# Altium footprint library CQFP80P1115X1115X120-32N.PcbLib: 1 footprints
Each footprint in its own frame and in the unit in brackets; x right, y up, seen from the top. Pads: shape width x height; smd on the part's side, far side on the other; paste and mask are expansions set on the pad; w line width, h text height; cw(c..) or ccw(c..) is an arc to the next point about the centre after c.
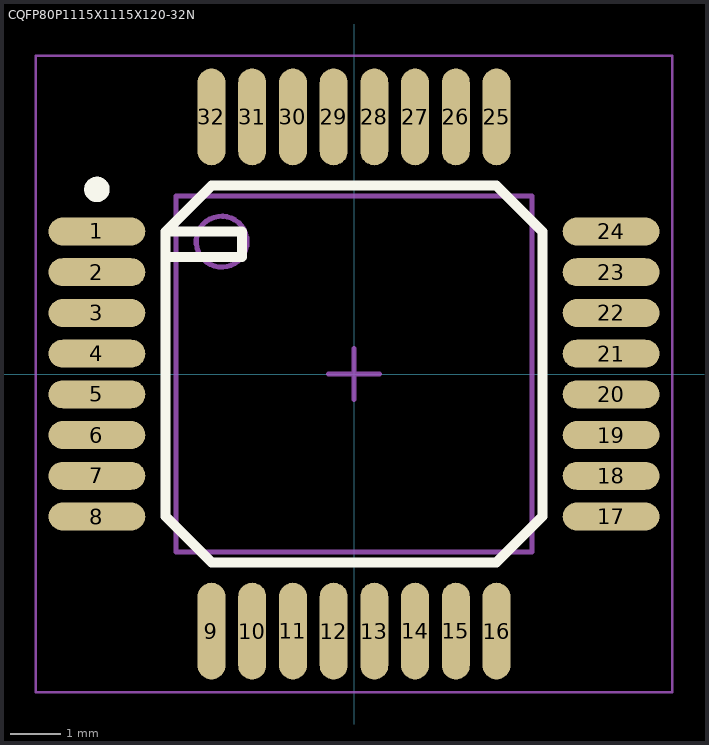
[diagram p0: the footprint, top view; thin cyan lines are the x and y axes]

## CQFP80P1115X1115X120-32N [mm] "CQFP, 32-Leads, Body 11.15x11.15mm, Pitch 0.80mm, IPC Medium Density"
height 1.2
pads (32):
  oval 1.9x0.55 smd: 1(-5.05,2.8) 2(-5.05,2) 3(-5.05,1.2) 4(-5.05,0.4) 5(-5.05,-0.4) 6(-5.05,-1.2) 7(-5.05,-2) 8(-5.05,-2.8) 17(5.05,-2.8) 18(5.05,-2) 19(5.05,-1.2) 20(5.05,-0.4) 21(5.05,0.4) 22(5.05,1.2) 23(5.05,2) 24(5.05,2.8)
  oval 0.55x1.9 smd: 9(-2.8,-5.05) 10(-2,-5.05) 11(-1.2,-5.05) 12(-0.4,-5.05) 13(0.4,-5.05) 14(1.2,-5.05) 15(2,-5.05) 16(2.8,-5.05) 25(2.8,5.05) 26(2,5.05) 27(1.2,5.05) 28(0.4,5.05) 29(-0.4,5.05) 30(-1.2,5.05) 31(-2,5.05) 32(-2.8,5.05)
Top Overlay:
  circle w0.25: c-5.05,3.625 r0.125
  lines w0.2: -3.7,2.3 -2.2,2.3 -2.2,2.8 -3.7,2.8 ; -3.7,2.8 -2.8,3.7 2.8,3.7 3.7,2.8 3.7,-2.8 2.8,-3.7 -2.8,-3.7 -3.7,-2.8 -3.7,2.8
Mechanical 13:
  circle w0.1: c-2.6,2.6 r0.5
  lines w0.1: -3.5,-3.5 3.5,-3.5 3.5,3.5 -3.5,3.5 -3.5,-3.5
Mechanical 15:
  lines w0.05: -6.25,-6.25 6.25,-6.25 6.25,6.25 -6.25,6.25 -6.25,-6.25
  lines w0.1: -0.5,0 0.5,0 ; 0,-0.5 0,0.5
3D body "CQFP80P1115X1115X120-32N.step": height 1.1, standoff 0, extent -5.575,-5.575 5.575,5.575